# Altium footprint library Copal.PcbLib: 1 footprints
Each footprint in its own frame and in the unit in brackets; x right, y up, seen from the top. Pads: shape width x height; smd on the part's side, far side on the other; paste and mask are expansions set on the pad; w line width, h text height; cw(c..) or ccw(c..) is an arc to the next point about the centre after c.
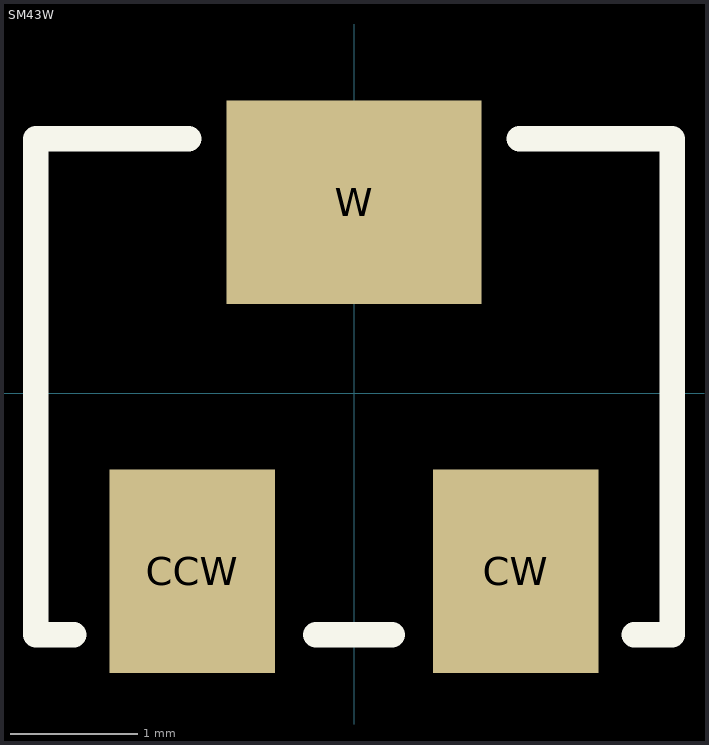
[diagram p0: the footprint, top view; thin cyan lines are the x and y axes]

## SM43W [mm] "Trimmer potentiometer"
height 5.3
pads (3):
  rect 1.3x1.6 smd mask+0: CCW(-1.27,-1.4) CW(1.27,-1.4)
  rect 2x1.6 smd mask+0: W(0,1.5)
Top Overlay:
  lines w0.2: -2.2,-1.9 -2.5,-1.9 -2.5,2 -1.3,2 ; -0.3,-1.9 0.3,-1.9 ; 1.3,2 2.5,2 2.5,-1.9 2.2,-1.9
3D body: height 5.3, standoff 0, extent -2.5,-1.9 2.5,2
3D body: height 5.6, standoff 5.3, extent 0.456,-1.348 1.95,0.149